# Altium footprint library BGA_Sq_100P.PcbLib: 114 footprints (part 31 of 31)
Each footprint in its own frame and in the unit in brackets; x right, y up, seen from the top. Pads: shape width x height; smd on the part's side, far side on the other; paste and mask are expansions set on the pad; w line width, h text height; cw(c..) or ccw(c..) is an arc to the next point about the centre after c.
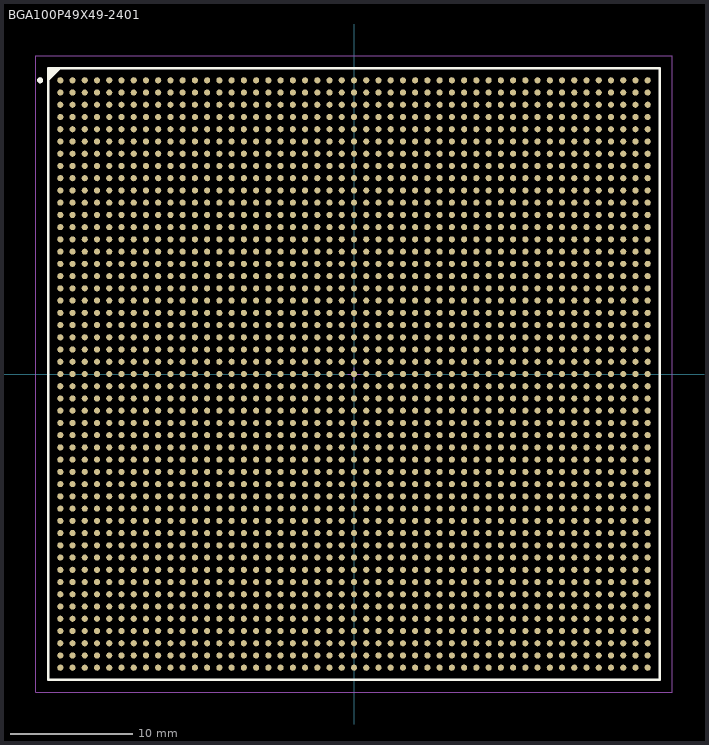
[diagram p30: the footprint, top view; thin cyan lines are the x and y axes]

## BGA100P49X49-2401 [mm] "BGA, 2401-Leads, Body 50x50mm, Pitch 1mm"
height 3.5
pads (2401):
  round 0.5 smd: A1(-24,24) A2(-23,24) A3(-22,24) A4(-21,24) A5(-20,24) A6(-19,24) A7(-18,24) A8(-17,24) A9(-16,24) A10(-15,24) A11(-14,24) A12(-13,24) A13(-12,24) A14(-11,24) A15(-10,24) A16(-9,24) A17(-8,24) A18(-7,24) A19(-6,24) A20(-5,24) A21(-4,24) A22(-3,24) A23(-2,24) A24(-1,24) A25(0,24) A26(1,24) A27(2,24) A28(3,24) A29(4,24) A30(5,24) A31(6,24) A32(7,24) A33(8,24) A34(9,24) A35(10,24) A36(11,24) A37(12,24) A38(13,24) A39(14,24) A40(15,24) A41(16,24) A42(17,24) A43(18,24) A44(19,24) A45(20,24) A46(21,24) A47(22,24) A48(23,24) A49(24,24) AA1(-24,4) AA2(-23,4) AA3(-22,4) AA4(-21,4) AA5(-20,4) AA6(-19,4) AA7(-18,4) AA8(-17,4) AA9(-16,4) AA10(-15,4) AA11(-14,4) AA12(-13,4) AA13(-12,4) AA14(-11,4) AA15(-10,4) AA16(-9,4) AA17(-8,4) AA18(-7,4) AA19(-6,4) AA20(-5,4) AA21(-4,4) AA22(-3,4) AA23(-2,4) AA24(-1,4) AA25(0,4) AA26(1,4) AA27(2,4) AA28(3,4) AA29(4,4) AA30(5,4) AA31(6,4) AA32(7,4) AA33(8,4) AA34(9,4) AA35(10,4) AA36(11,4) AA37(12,4) AA38(13,4) AA39(14,4) AA40(15,4) AA41(16,4) AA42(17,4) AA43(18,4) AA44(19,4) AA45(20,4) AA46(21,4) AA47(22,4) AA48(23,4) AA49(24,4) AB1(-24,3) AB2(-23,3) AB3(-22,3) AB4(-21,3) AB5(-20,3) AB6(-19,3) AB7(-18,3) AB8(-17,3) AB9(-16,3) AB10(-15,3) AB11(-14,3) AB12(-13,3) AB13(-12,3) AB14(-11,3) AB15(-10,3) AB16(-9,3) AB17(-8,3) AB18(-7,3) AB19(-6,3) AB20(-5,3) AB21(-4,3) AB22(-3,3) AB23(-2,3) AB24(-1,3) AB25(0,3) AB26(1,3) AB27(2,3) AB28(3,3) AB29(4,3) AB30(5,3) AB31(6,3) AB32(7,3) AB33(8,3) AB34(9,3) AB35(10,3) AB36(11,3) AB37(12,3) AB38(13,3) AB39(14,3) AB40(15,3) AB41(16,3) AB42(17,3) AB43(18,3) AB44(19,3) AB45(20,3) AB46(21,3) AB47(22,3) AB48(23,3) AB49(24,3) AC1(-24,2) AC2(-23,2) AC3(-22,2) AC4(-21,2) AC5(-20,2) AC6(-19,2) AC7(-18,2) AC8(-17,2) AC9(-16,2) AC10(-15,2) AC11(-14,2) AC12(-13,2) AC13(-12,2) AC14(-11,2) AC15(-10,2) AC16(-9,2) AC17(-8,2) AC18(-7,2) AC19(-6,2) AC20(-5,2) AC21(-4,2) AC22(-3,2) AC23(-2,2) AC24(-1,2) AC25(0,2) AC26(1,2) AC27(2,2) AC28(3,2) AC29(4,2) AC30(5,2) AC31(6,2) AC32(7,2) AC33(8,2) AC34(9,2) AC35(10,2) AC36(11,2) AC37(12,2) AC38(13,2) AC39(14,2) AC40(15,2) AC41(16,2) AC42(17,2) AC43(18,2) AC44(19,2) AC45(20,2) AC46(21,2) AC47(22,2) AC48(23,2) AC49(24,2) AD1(-24,1) AD2(-23,1) AD3(-22,1) AD4(-21,1) AD5(-20,1) AD6(-19,1) AD7(-18,1) AD8(-17,1) AD9(-16,1) AD10(-15,1) AD11(-14,1) AD12(-13,1) AD13(-12,1) AD14(-11,1) AD15(-10,1) AD16(-9,1) AD17(-8,1) AD18(-7,1) AD19(-6,1) AD20(-5,1) AD21(-4,1) AD22(-3,1) AD23(-2,1) AD24(-1,1) AD25(0,1) AD26(1,1) AD27(2,1) AD28(3,1) AD29(4,1) AD30(5,1) AD31(6,1) AD32(7,1) AD33(8,1) AD34(9,1) AD35(10,1) AD36(11,1) AD37(12,1) AD38(13,1) AD39(14,1) AD40(15,1) AD41(16,1) AD42(17,1) AD43(18,1) AD44(19,1) AD45(20,1) AD46(21,1) AD47(22,1) AD48(23,1) AD49(24,1) AE1(-24,0) AE2(-23,0) AE3(-22,0) AE4(-21,0) AE5(-20,0) AE6(-19,0) AE7(-18,0) AE8(-17,0) AE9(-16,0) AE10(-15,0) AE11(-14,0) AE12(-13,0) AE13(-12,0) AE14(-11,0) AE15(-10,0) AE16(-9,0) AE17(-8,0) AE18(-7,0) AE19(-6,0) AE20(-5,0) AE21(-4,0) AE22(-3,0) AE23(-2,0) AE24(-1,0) AE25(0,0) AE26(1,0) AE27(2,0) AE28(3,0) AE29(4,0) AE30(5,0) AE31(6,0) AE32(7,0) AE33(8,0) AE34(9,0) AE35(10,0) AE36(11,0) AE37(12,0) AE38(13,0) AE39(14,0) AE40(15,0) AE41(16,0) AE42(17,0) AE43(18,0) AE44(19,0) AE45(20,0) AE46(21,0) AE47(22,0) AE48(23,0) AE49(24,0) AF1(-24,-1) AF2(-23,-1) AF3(-22,-1) AF4(-21,-1) AF5(-20,-1) AF6(-19,-1) AF7(-18,-1) AF8(-17,-1) AF9(-16,-1) AF10(-15,-1) AF11(-14,-1) AF12(-13,-1) AF13(-12,-1) AF14(-11,-1) AF15(-10,-1) AF16(-9,-1) AF17(-8,-1) AF18(-7,-1) AF19(-6,-1) AF20(-5,-1) AF21(-4,-1) AF22(-3,-1) AF23(-2,-1) AF24(-1,-1) AF25(0,-1) AF26(1,-1) AF27(2,-1) AF28(3,-1) AF29(4,-1) AF30(5,-1) AF31(6,-1) AF32(7,-1) AF33(8,-1) AF34(9,-1) AF35(10,-1) AF36(11,-1) AF37(12,-1) AF38(13,-1) AF39(14,-1) AF40(15,-1) AF41(16,-1) AF42(17,-1) AF43(18,-1) AF44(19,-1) AF45(20,-1) AF46(21,-1) AF47(22,-1) AF48(23,-1) AF49(24,-1) AG1(-24,-2) AG2(-23,-2) AG3(-22,-2) AG4(-21,-2) AG5(-20,-2) AG6(-19,-2) AG7(-18,-2) AG8(-17,-2) AG9(-16,-2) AG10(-15,-2) AG11(-14,-2) AG12(-13,-2) AG13(-12,-2) AG14(-11,-2) AG15(-10,-2) AG16(-9,-2) AG17(-8,-2) AG18(-7,-2) AG19(-6,-2) AG20(-5,-2) AG21(-4,-2) AG22(-3,-2) AG23(-2,-2) AG24(-1,-2) AG25(0,-2) AG26(1,-2) AG27(2,-2) AG28(3,-2) AG29(4,-2) AG30(5,-2) AG31(6,-2) AG32(7,-2) AG33(8,-2) AG34(9,-2) AG35(10,-2) AG36(11,-2) AG37(12,-2) AG38(13,-2) AG39(14,-2) AG40(15,-2) AG41(16,-2) AG42(17,-2) AG43(18,-2) AG44(19,-2) AG45(20,-2) AG46(21,-2) AG47(22,-2) AG48(23,-2) AG49(24,-2) AH1(-24,-3) AH2(-23,-3) AH3(-22,-3) AH4(-21,-3) AH5(-20,-3) AH6(-19,-3) AH7(-18,-3) AH8(-17,-3) AH9(-16,-3) AH10(-15,-3) AH11(-14,-3) AH12(-13,-3) AH13(-12,-3) AH14(-11,-3) AH15(-10,-3) AH16(-9,-3) AH17(-8,-3) AH18(-7,-3) AH19(-6,-3) AH20(-5,-3) AH21(-4,-3) AH22(-3,-3) AH23(-2,-3) AH24(-1,-3) AH25(0,-3) AH26(1,-3) AH27(2,-3) AH28(3,-3) AH29(4,-3) AH30(5,-3) AH31(6,-3) AH32(7,-3) AH33(8,-3) AH34(9,-3) AH35(10,-3) AH36(11,-3) AH37(12,-3) AH38(13,-3) AH39(14,-3) AH40(15,-3) AH41(16,-3) AH42(17,-3) AH43(18,-3) AH44(19,-3) AH45(20,-3) AH46(21,-3) AH47(22,-3) AH48(23,-3) AH49(24,-3) AJ1(-24,-4) AJ2(-23,-4) AJ3(-22,-4) AJ4(-21,-4) AJ5(-20,-4) AJ6(-19,-4) AJ7(-18,-4) AJ8(-17,-4) AJ9(-16,-4) AJ10(-15,-4) AJ11(-14,-4) AJ12(-13,-4) AJ13(-12,-4) AJ14(-11,-4) AJ15(-10,-4) AJ16(-9,-4) AJ17(-8,-4) AJ18(-7,-4) AJ19(-6,-4) AJ20(-5,-4) AJ21(-4,-4) AJ22(-3,-4) AJ23(-2,-4) AJ24(-1,-4) AJ25(0,-4) AJ26(1,-4) AJ27(2,-4) AJ28(3,-4) AJ29(4,-4) AJ30(5,-4) AJ31(6,-4) AJ32(7,-4) AJ33(8,-4) AJ34(9,-4) AJ35(10,-4) AJ36(11,-4) AJ37(12,-4) AJ38(13,-4) AJ39(14,-4) AJ40(15,-4) AJ41(16,-4) AJ42(17,-4) AJ43(18,-4) AJ44(19,-4) AJ45(20,-4) AJ46(21,-4) AJ47(22,-4) AJ48(23,-4) AJ49(24,-4) AK1(-24,-5) AK2(-23,-5) AK3(-22,-5) AK4(-21,-5) AK5(-20,-5) AK6(-19,-5) AK7(-18,-5) AK8(-17,-5) AK9(-16,-5) AK10(-15,-5) AK11(-14,-5) AK12(-13,-5) AK13(-12,-5) AK14(-11,-5) AK15(-10,-5) AK16(-9,-5) AK17(-8,-5) AK18(-7,-5) AK19(-6,-5) AK20(-5,-5) AK21(-4,-5) AK22(-3,-5) AK23(-2,-5) AK24(-1,-5) AK25(0,-5) AK26(1,-5) AK27(2,-5) AK28(3,-5) AK29(4,-5) AK30(5,-5) AK31(6,-5) AK32(7,-5) AK33(8,-5) AK34(9,-5) AK35(10,-5) AK36(11,-5) AK37(12,-5) AK38(13,-5) AK39(14,-5) AK40(15,-5) AK41(16,-5) AK42(17,-5) AK43(18,-5) AK44(19,-5) AK45(20,-5) AK46(21,-5) AK47(22,-5) AK48(23,-5) AK49(24,-5) AL1(-24,-6) AL2(-23,-6) AL3(-22,-6) AL4(-21,-6) AL5(-20,-6) AL6(-19,-6) AL7(-18,-6) AL8(-17,-6) AL9(-16,-6) AL10(-15,-6) AL11(-14,-6) AL12(-13,-6) AL13(-12,-6) AL14(-11,-6) AL15(-10,-6) AL16(-9,-6) AL17(-8,-6) AL18(-7,-6) AL19(-6,-6) AL20(-5,-6) AL21(-4,-6) AL22(-3,-6) AL23(-2,-6) AL24(-1,-6) AL25(0,-6) AL26(1,-6) AL27(2,-6) AL28(3,-6) AL29(4,-6) AL30(5,-6) AL31(6,-6) AL32(7,-6) AL33(8,-6) AL34(9,-6) AL35(10,-6) AL36(11,-6) AL37(12,-6) AL38(13,-6) AL39(14,-6) AL40(15,-6) AL41(16,-6) AL42(17,-6) AL43(18,-6) AL44(19,-6) AL45(20,-6) AL46(21,-6) AL47(22,-6) AL48(23,-6) AL49(24,-6) AM1(-24,-7) AM2(-23,-7) AM3(-22,-7) AM4(-21,-7) AM5(-20,-7) AM6(-19,-7) AM7(-18,-7) AM8(-17,-7) AM9(-16,-7) AM10(-15,-7) AM11(-14,-7) AM12(-13,-7) AM13(-12,-7) AM14(-11,-7) AM15(-10,-7) AM16(-9,-7) AM17(-8,-7) AM18(-7,-7) AM19(-6,-7) AM20(-5,-7) AM21(-4,-7) AM22(-3,-7) AM23(-2,-7) AM24(-1,-7) AM25(0,-7) AM26(1,-7) AM27(2,-7) AM28(3,-7) AM29(4,-7) AM30(5,-7) AM31(6,-7) AM32(7,-7) AM33(8,-7) AM34(9,-7) AM35(10,-7) AM36(11,-7) AM37(12,-7) AM38(13,-7) AM39(14,-7) AM40(15,-7) AM41(16,-7) AM42(17,-7) AM43(18,-7) AM44(19,-7) AM45(20,-7) AM46(21,-7) AM47(22,-7) AM48(23,-7) AM49(24,-7) AN1(-24,-8) AN2(-23,-8) AN3(-22,-8) AN4(-21,-8) AN5(-20,-8) AN6(-19,-8) AN7(-18,-8) AN8(-17,-8) AN9(-16,-8) AN10(-15,-8) AN11(-14,-8) AN12(-13,-8) AN13(-12,-8) AN14(-11,-8) AN15(-10,-8) AN16(-9,-8) AN17(-8,-8) AN18(-7,-8) AN19(-6,-8) AN20(-5,-8) AN21(-4,-8) AN22(-3,-8) AN23(-2,-8) AN24(-1,-8) AN25(0,-8) AN26(1,-8) AN27(2,-8) AN28(3,-8) AN29(4,-8) AN30(5,-8) AN31(6,-8) AN32(7,-8) AN33(8,-8) AN34(9,-8) AN35(10,-8) AN36(11,-8) AN37(12,-8) AN38(13,-8) AN39(14,-8) AN40(15,-8) AN41(16,-8) AN42(17,-8) AN43(18,-8) AN44(19,-8) AN45(20,-8) AN46(21,-8) AN47(22,-8) AN48(23,-8) AN49(24,-8) AP1(-24,-9) AP2(-23,-9) AP3(-22,-9) AP4(-21,-9) AP5(-20,-9) AP6(-19,-9) AP7(-18,-9) AP8(-17,-9) AP9(-16,-9) AP10(-15,-9) AP11(-14,-9) AP12(-13,-9) AP13(-12,-9) AP14(-11,-9) AP15(-10,-9) AP16(-9,-9) AP17(-8,-9) AP18(-7,-9) AP19(-6,-9) AP20(-5,-9) AP21(-4,-9) AP22(-3,-9) AP23(-2,-9) AP24(-1,-9) AP25(0,-9) AP26(1,-9) AP27(2,-9) AP28(3,-9) AP29(4,-9) AP30(5,-9) AP31(6,-9) AP32(7,-9) AP33(8,-9) AP34(9,-9) AP35(10,-9) AP36(11,-9) AP37(12,-9) AP38(13,-9) AP39(14,-9) AP40(15,-9) AP41(16,-9) AP42(17,-9) AP43(18,-9) AP44(19,-9) AP45(20,-9) AP46(21,-9) AP47(22,-9) AP48(23,-9) AP49(24,-9) AR1(-24,-10) AR2(-23,-10) AR3(-22,-10) AR4(-21,-10) AR5(-20,-10) AR6(-19,-10) AR7(-18,-10) AR8(-17,-10) AR9(-16,-10) AR10(-15,-10) AR11(-14,-10) AR12(-13,-10) AR13(-12,-10) AR14(-11,-10) AR15(-10,-10) AR16(-9,-10) AR17(-8,-10) AR18(-7,-10) AR19(-6,-10) AR20(-5,-10) AR21(-4,-10) AR22(-3,-10) AR23(-2,-10) AR24(-1,-10) AR25(0,-10) AR26(1,-10) AR27(2,-10) AR28(3,-10) AR29(4,-10) AR30(5,-10) AR31(6,-10) AR32(7,-10) AR33(8,-10) AR34(9,-10) AR35(10,-10) AR36(11,-10) AR37(12,-10) AR38(13,-10) AR39(14,-10) AR40(15,-10) AR41(16,-10) AR42(17,-10) AR43(18,-10) AR44(19,-10) AR45(20,-10) AR46(21,-10) AR47(22,-10) AR48(23,-10) AR49(24,-10) AT1(-24,-11) AT2(-23,-11) AT3(-22,-11) AT4(-21,-11) AT5(-20,-11) AT6(-19,-11) AT7(-18,-11) AT8(-17,-11) AT9(-16,-11) AT10(-15,-11) AT11(-14,-11) AT12(-13,-11) AT13(-12,-11) AT14(-11,-11) AT15(-10,-11) AT16(-9,-11) AT17(-8,-11) AT18(-7,-11) AT19(-6,-11) AT20(-5,-11) AT21(-4,-11) AT22(-3,-11) AT23(-2,-11) AT24(-1,-11) AT25(0,-11) AT26(1,-11) AT27(2,-11) AT28(3,-11) AT29(4,-11) AT30(5,-11) AT31(6,-11) AT32(7,-11) AT33(8,-11) AT34(9,-11) AT35(10,-11) AT36(11,-11) AT37(12,-11) AT38(13,-11) AT39(14,-11) AT40(15,-11) AT41(16,-11) AT42(17,-11) AT43(18,-11) AT44(19,-11) AT45(20,-11) AT46(21,-11) AT47(22,-11) AT48(23,-11) AT49(24,-11) AU1(-24,-12) AU2(-23,-12) AU3(-22,-12) AU4(-21,-12) AU5(-20,-12) AU6(-19,-12) AU7(-18,-12) AU8(-17,-12) AU9(-16,-12) AU10(-15,-12) AU11(-14,-12) AU12(-13,-12) AU13(-12,-12) AU14(-11,-12) AU15(-10,-12) AU16(-9,-12) AU17(-8,-12) AU18(-7,-12) AU19(-6,-12) AU20(-5,-12) AU21(-4,-12) AU22(-3,-12) AU23(-2,-12) AU24(-1,-12) AU25(0,-12) AU26(1,-12) AU27(2,-12) AU28(3,-12) AU29(4,-12) AU30(5,-12) AU31(6,-12) AU32(7,-12) AU33(8,-12) AU34(9,-12) AU35(10,-12) AU36(11,-12) AU37(12,-12) AU38(13,-12) AU39(14,-12) AU40(15,-12) AU41(16,-12) AU42(17,-12) AU43(18,-12) AU44(19,-12) AU45(20,-12) AU46(21,-12) AU47(22,-12) AU48(23,-12) AU49(24,-12) AV1(-24,-13) AV2(-23,-13) AV3(-22,-13) AV4(-21,-13) AV5(-20,-13) AV6(-19,-13) AV7(-18,-13) AV8(-17,-13) AV9(-16,-13) AV10(-15,-13) AV11(-14,-13) AV12(-13,-13) AV13(-12,-13) AV14(-11,-13) AV15(-10,-13) AV16(-9,-13) AV17(-8,-13) AV18(-7,-13) AV19(-6,-13) AV20(-5,-13) AV21(-4,-13) AV22(-3,-13) AV23(-2,-13) AV24(-1,-13) AV25(0,-13) AV26(1,-13) AV27(2,-13) AV28(3,-13) AV29(4,-13) AV30(5,-13) AV31(6,-13) AV32(7,-13) AV33(8,-13) AV34(9,-13) AV35(10,-13) AV36(11,-13) AV37(12,-13) AV38(13,-13) AV39(14,-13) AV40(15,-13) AV41(16,-13) AV42(17,-13) AV43(18,-13) AV44(19,-13) AV45(20,-13) AV46(21,-13) AV47(22,-13) AV48(23,-13) AV49(24,-13) AW1(-24,-14) AW2(-23,-14) AW3(-22,-14) AW4(-21,-14) AW5(-20,-14) AW6(-19,-14) AW7(-18,-14) AW8(-17,-14) AW9(-16,-14) AW10(-15,-14) AW11(-14,-14) AW12(-13,-14) AW13(-12,-14) AW14(-11,-14) AW15(-10,-14) AW16(-9,-14) AW17(-8,-14) AW18(-7,-14) AW19(-6,-14) AW20(-5,-14) AW21(-4,-14) AW22(-3,-14) AW23(-2,-14) AW24(-1,-14) AW25(0,-14) AW26(1,-14) AW27(2,-14) AW28(3,-14) AW29(4,-14) AW30(5,-14) AW31(6,-14) AW32(7,-14) AW33(8,-14) AW34(9,-14) AW35(10,-14) AW36(11,-14) AW37(12,-14) AW38(13,-14) AW39(14,-14) AW40(15,-14) AW41(16,-14) AW42(17,-14) AW43(18,-14) AW44(19,-14) AW45(20,-14) AW46(21,-14) AW47(22,-14) AW48(23,-14) AW49(24,-14) AY1(-24,-15) AY2(-23,-15) AY3(-22,-15) AY4(-21,-15) AY5(-20,-15) AY6(-19,-15) AY7(-18,-15) AY8(-17,-15) AY9(-16,-15) AY10(-15,-15) AY11(-14,-15) AY12(-13,-15) AY13(-12,-15) AY14(-11,-15) AY15(-10,-15) AY16(-9,-15) AY17(-8,-15) AY18(-7,-15) AY19(-6,-15) AY20(-5,-15) AY21(-4,-15) AY22(-3,-15) AY23(-2,-15) AY24(-1,-15) AY25(0,-15) AY26(1,-15) AY27(2,-15) AY28(3,-15) AY29(4,-15) AY30(5,-15) AY31(6,-15) AY32(7,-15) AY33(8,-15) AY34(9,-15) AY35(10,-15) AY36(11,-15) AY37(12,-15) AY38(13,-15) AY39(14,-15) AY40(15,-15) AY41(16,-15) AY42(17,-15) AY43(18,-15) AY44(19,-15) AY45(20,-15) AY46(21,-15) AY47(22,-15) AY48(23,-15) AY49(24,-15) B1(-24,23) B2(-23,23) B3(-22,23) B4(-21,23) B5(-20,23) B6(-19,23) B7(-18,23) B8(-17,23) B9(-16,23) B10(-15,23) B11(-14,23) B12(-13,23) B13(-12,23) B14(-11,23) B15(-10,23) B16(-9,23) B17(-8,23) B18(-7,23) B19(-6,23) B20(-5,23) B21(-4,23) B22(-3,23) B23(-2,23) B24(-1,23) B25(0,23) B26(1,23) B27(2,23) B28(3,23) B29(4,23) B30(5,23) B31(6,23) B32(7,23) B33(8,23) B34(9,23) B35(10,23) B36(11,23) B37(12,23) B38(13,23) B39(14,23) B40(15,23) B41(16,23) B42(17,23) B43(18,23) B44(19,23) B45(20,23) B46(21,23) B47(22,23) B48(23,23) B49(24,23) BA1(-24,-16) BA2(-23,-16) BA3(-22,-16) BA4(-21,-16) BA5(-20,-16) BA6(-19,-16) BA7(-18,-16) BA8(-17,-16) BA9(-16,-16) BA10(-15,-16) BA11(-14,-16) BA12(-13,-16) BA13(-12,-16) BA14(-11,-16) BA15(-10,-16) BA16(-9,-16) BA17(-8,-16) BA18(-7,-16) BA19(-6,-16) BA20(-5,-16) BA21(-4,-16) BA22(-3,-16) BA23(-2,-16) BA24(-1,-16) BA25(0,-16) BA26(1,-16) BA27(2,-16) BA28(3,-16) BA29(4,-16) BA30(5,-16) BA31(6,-16) BA32(7,-16) BA33(8,-16) BA34(9,-16) BA35(10,-16) BA36(11,-16) BA37(12,-16) BA38(13,-16) BA39(14,-16) BA40(15,-16) BA41(16,-16) BA42(17,-16) BA43(18,-16) BA44(19,-16) BA45(20,-16) BA46(21,-16) BA47(22,-16) BA48(23,-16) BA49(24,-16) BB1(-24,-17) BB2(-23,-17) BB3(-22,-17) BB4(-21,-17) BB5(-20,-17) BB6(-19,-17) BB7(-18,-17) BB8(-17,-17) BB9(-16,-17) BB10(-15,-17) BB11(-14,-17) BB12(-13,-17) BB13(-12,-17) BB14(-11,-17) BB15(-10,-17) BB16(-9,-17) BB17(-8,-17) BB18(-7,-17) BB19(-6,-17) BB20(-5,-17) BB21(-4,-17) BB22(-3,-17) BB23(-2,-17) BB24(-1,-17) BB25(0,-17) BB26(1,-17) BB27(2,-17) BB28(3,-17) BB29(4,-17) BB30(5,-17) BB31(6,-17) BB32(7,-17) BB33(8,-17) BB34(9,-17) BB35(10,-17) BB36(11,-17) BB37(12,-17) BB38(13,-17) BB39(14,-17) BB40(15,-17) BB41(16,-17) BB42(17,-17) BB43(18,-17) BB44(19,-17) BB45(20,-17) BB46(21,-17) BB47(22,-17) BB48(23,-17) BB49(24,-17) BC1(-24,-18) BC2(-23,-18) BC3(-22,-18) BC4(-21,-18) BC5(-20,-18) BC6(-19,-18) BC7(-18,-18) BC8(-17,-18) BC9(-16,-18) BC10(-15,-18) BC11(-14,-18) BC12(-13,-18) BC13(-12,-18) BC14(-11,-18) BC15(-10,-18) BC16(-9,-18) BC17(-8,-18) BC18(-7,-18) BC19(-6,-18) BC20(-5,-18) BC21(-4,-18) BC22(-3,-18) BC23(-2,-18) BC24(-1,-18) BC25(0,-18) BC26(1,-18) BC27(2,-18) BC28(3,-18) BC29(4,-18) BC30(5,-18) BC31(6,-18) BC32(7,-18) BC33(8,-18) BC34(9,-18) BC35(10,-18) BC36(11,-18) BC37(12,-18) BC38(13,-18) BC39(14,-18) BC40(15,-18) BC41(16,-18) BC42(17,-18) BC43(18,-18) BC44(19,-18) BC45(20,-18) BC46(21,-18) BC47(22,-18) BC48(23,-18) BC49(24,-18) BD1(-24,-19) BD2(-23,-19) BD3(-22,-19) BD4(-21,-19) BD5(-20,-19) BD6(-19,-19) BD7(-18,-19) BD8(-17,-19) BD9(-16,-19) BD10(-15,-19) BD11(-14,-19) BD12(-13,-19) BD13(-12,-19) BD14(-11,-19) BD15(-10,-19) BD16(-9,-19) BD17(-8,-19) BD18(-7,-19) BD19(-6,-19) BD20(-5,-19) BD21(-4,-19) BD22(-3,-19) BD23(-2,-19) BD24(-1,-19) BD25(0,-19) BD26(1,-19) BD27(2,-19) BD28(3,-19) BD29(4,-19) BD30(5,-19) BD31(6,-19) BD32(7,-19) BD33(8,-19) BD34(9,-19) BD35(10,-19) BD36(11,-19) BD37(12,-19) BD38(13,-19) BD39(14,-19) BD40(15,-19) BD41(16,-19) BD42(17,-19) BD43(18,-19) BD44(19,-19) BD45(20,-19) BD46(21,-19) BD47(22,-19) BD48(23,-19) BD49(24,-19) BE1(-24,-20) BE2(-23,-20) BE3(-22,-20) BE4(-21,-20) BE5(-20,-20) BE6(-19,-20) BE7(-18,-20) BE8(-17,-20) BE9(-16,-20) BE10(-15,-20) BE11(-14,-20) BE12(-13,-20) BE13(-12,-20) BE14(-11,-20) BE15(-10,-20) BE16(-9,-20) BE17(-8,-20) BE18(-7,-20) BE19(-6,-20) BE20(-5,-20) BE21(-4,-20) BE22(-3,-20) BE23(-2,-20) BE24(-1,-20) BE25(0,-20) BE26(1,-20) BE27(2,-20) BE28(3,-20) BE29(4,-20) BE30(5,-20) BE31(6,-20) BE32(7,-20) BE33(8,-20) BE34(9,-20) BE35(10,-20) BE36(11,-20) BE37(12,-20) BE38(13,-20) BE39(14,-20) BE40(15,-20) BE41(16,-20) BE42(17,-20) BE43(18,-20) BE44(19,-20) BE45(20,-20) BE46(21,-20) BE47(22,-20) BE48(23,-20) BE49(24,-20) BF1(-24,-21) BF2(-23,-21) BF3(-22,-21) BF4(-21,-21) BF5(-20,-21) BF6(-19,-21) BF7(-18,-21) BF8(-17,-21) BF9(-16,-21) BF10(-15,-21) BF11(-14,-21) BF12(-13,-21) BF13(-12,-21) BF14(-11,-21) BF15(-10,-21) BF16(-9,-21) BF17(-8,-21) BF18(-7,-21) BF19(-6,-21) BF20(-5,-21) BF21(-4,-21) BF22(-3,-21) BF23(-2,-21) BF24(-1,-21) BF25(0,-21) BF26(1,-21) BF27(2,-21) BF28(3,-21) BF29(4,-21) BF30(5,-21) BF31(6,-21) BF32(7,-21) BF33(8,-21) BF34(9,-21) BF35(10,-21) BF36(11,-21) BF37(12,-21) BF38(13,-21) BF39(14,-21) BF40(15,-21) BF41(16,-21) BF42(17,-21) BF43(18,-21) BF44(19,-21) BF45(20,-21) BF46(21,-21) BF47(22,-21) BF48(23,-21) BF49(24,-21) BG1(-24,-22) BG2(-23,-22) BG3(-22,-22) BG4(-21,-22) BG5(-20,-22) BG6(-19,-22) BG7(-18,-22) BG8(-17,-22) BG9(-16,-22) BG10(-15,-22) BG11(-14,-22) BG12(-13,-22) BG13(-12,-22) BG14(-11,-22) BG15(-10,-22) BG16(-9,-22) BG17(-8,-22) BG18(-7,-22) BG19(-6,-22) BG20(-5,-22) BG21(-4,-22) BG22(-3,-22) BG23(-2,-22) BG24(-1,-22) BG25(0,-22) BG26(1,-22) BG27(2,-22) BG28(3,-22) BG29(4,-22) BG30(5,-22) BG31(6,-22) BG32(7,-22) BG33(8,-22) BG34(9,-22) BG35(10,-22) BG36(11,-22) BG37(12,-22) BG38(13,-22) BG39(14,-22) BG40(15,-22) BG41(16,-22) BG42(17,-22) BG43(18,-22) BG44(19,-22) BG45(20,-22) BG46(21,-22) BG47(22,-22) BG48(23,-22) BG49(24,-22) BH1(-24,-23) BH2(-23,-23) BH3(-22,-23) BH4(-21,-23) BH5(-20,-23) BH6(-19,-23) BH7(-18,-23) BH8(-17,-23) BH9(-16,-23) BH10(-15,-23) BH11(-14,-23) BH12(-13,-23) BH13(-12,-23) BH14(-11,-23) BH15(-10,-23) BH16(-9,-23) BH17(-8,-23) BH18(-7,-23) BH19(-6,-23) BH20(-5,-23) BH21(-4,-23) BH22(-3,-23) BH23(-2,-23) BH24(-1,-23) BH25(0,-23) BH26(1,-23) BH27(2,-23) BH28(3,-23) BH29(4,-23) BH30(5,-23) BH31(6,-23) BH32(7,-23) BH33(8,-23) BH34(9,-23) BH35(10,-23) BH36(11,-23) BH37(12,-23) BH38(13,-23) BH39(14,-23) BH40(15,-23) BH41(16,-23) BH42(17,-23) BH43(18,-23) BH44(19,-23) BH45(20,-23) BH46(21,-23) BH47(22,-23) BH48(23,-23) BH49(24,-23) BJ1(-24,-24) BJ2(-23,-24) BJ3(-22,-24) BJ4(-21,-24) BJ5(-20,-24) BJ6(-19,-24) BJ7(-18,-24) BJ8(-17,-24) BJ9(-16,-24) BJ10(-15,-24) BJ11(-14,-24) BJ12(-13,-24) BJ13(-12,-24) BJ14(-11,-24) BJ15(-10,-24) BJ16(-9,-24) BJ17(-8,-24) BJ18(-7,-24) BJ19(-6,-24) BJ20(-5,-24) BJ21(-4,-24) BJ22(-3,-24) BJ23(-2,-24) BJ24(-1,-24) BJ25(0,-24) BJ26(1,-24) BJ27(2,-24) BJ28(3,-24) BJ29(4,-24) BJ30(5,-24) BJ31(6,-24) BJ32(7,-24) BJ33(8,-24) BJ34(9,-24) BJ35(10,-24) BJ36(11,-24) BJ37(12,-24) BJ38(13,-24) BJ39(14,-24) BJ40(15,-24) BJ41(16,-24) BJ42(17,-24) BJ43(18,-24) BJ44(19,-24) BJ45(20,-24) BJ46(21,-24) BJ47(22,-24) BJ48(23,-24) BJ49(24,-24) C1(-24,22) C2(-23,22) C3(-22,22) C4(-21,22) C5(-20,22) C6(-19,22) C7(-18,22) C8(-17,22) C9(-16,22) C10(-15,22) C11(-14,22) C12(-13,22) C13(-12,22) C14(-11,22) C15(-10,22) C16(-9,22) C17(-8,22) C18(-7,22) C19(-6,22) C20(-5,22) C21(-4,22) C22(-3,22) C23(-2,22) C24(-1,22) C25(0,22) C26(1,22) C27(2,22) C28(3,22) C29(4,22) C30(5,22) C31(6,22) C32(7,22) C33(8,22) C34(9,22) C35(10,22) C36(11,22) C37(12,22) C38(13,22) C39(14,22) C40(15,22) C41(16,22) C42(17,22) C43(18,22) C44(19,22) C45(20,22) C46(21,22) C47(22,22) C48(23,22) C49(24,22) D1(-24,21) D2(-23,21) D3(-22,21) D4(-21,21) D5(-20,21) D6(-19,21) D7(-18,21) D8(-17,21) D9(-16,21) D10(-15,21) D11(-14,21) D12(-13,21) D13(-12,21) D14(-11,21) D15(-10,21) D16(-9,21) D17(-8,21) D18(-7,21) D19(-6,21) D20(-5,21) D21(-4,21) D22(-3,21) D23(-2,21) D24(-1,21) D25(0,21) D26(1,21) D27(2,21) D28(3,21) D29(4,21) D30(5,21) D31(6,21) D32(7,21) D33(8,21) D34(9,21) D35(10,21) D36(11,21) D37(12,21) D38(13,21) D39(14,21) D40(15,21) D41(16,21) D42(17,21) D43(18,21) D44(19,21) D45(20,21) D46(21,21) D47(22,21) D48(23,21) D49(24,21) E1(-24,20) E2(-23,20) E3(-22,20) E4(-21,20) E5(-20,20) E6(-19,20) E7(-18,20) E8(-17,20) E9(-16,20) E10(-15,20) E11(-14,20) E12(-13,20) E13(-12,20) E14(-11,20) E15(-10,20) E16(-9,20) E17(-8,20) E18(-7,20) E19(-6,20) E20(-5,20) E21(-4,20) E22(-3,20) E23(-2,20) E24(-1,20) E25(0,20) E26(1,20) E27(2,20) E28(3,20) E29(4,20) E30(5,20) E31(6,20) E32(7,20) E33(8,20) E34(9,20) E35(10,20) E36(11,20) E37(12,20) E38(13,20) E39(14,20) E40(15,20) E41(16,20) E42(17,20) E43(18,20) E44(19,20) E45(20,20) E46(21,20) E47(22,20) E48(23,20) E49(24,20) F1(-24,19) F2(-23,19) F3(-22,19) F4(-21,19) F5(-20,19) F6(-19,19) F7(-18,19) F8(-17,19) F9(-16,19) F10(-15,19) F11(-14,19) F12(-13,19) F13(-12,19) F14(-11,19) F15(-10,19) F16(-9,19) F17(-8,19) F18(-7,19) F19(-6,19) F20(-5,19) F21(-4,19) F22(-3,19) F23(-2,19) F24(-1,19) F25(0,19) F26(1,19) F27(2,19) F28(3,19) F29(4,19) F30(5,19) F31(6,19) F32(7,19) F33(8,19) F34(9,19) F35(10,19) F36(11,19) F37(12,19) F38(13,19) F39(14,19) F40(15,19) F41(16,19) F42(17,19) F43(18,19) F44(19,19) F45(20,19) F46(21,19) F47(22,19) F48(23,19) F49(24,19) G1(-24,18) G2(-23,18) G3(-22,18) G4(-21,18) G5(-20,18) G6(-19,18) G7(-18,18) G8(-17,18) G9(-16,18) G10(-15,18) G11(-14,18) G12(-13,18) G13(-12,18) G14(-11,18) G15(-10,18) G16(-9,18) G17(-8,18) G18(-7,18) G19(-6,18) G20(-5,18) G21(-4,18) G22(-3,18) G23(-2,18) G24(-1,18) G25(0,18) G26(1,18) G27(2,18) G28(3,18) G29(4,18) G30(5,18) G31(6,18) G32(7,18) G33(8,18) G34(9,18) G35(10,18) G36(11,18) G37(12,18) G38(13,18) G39(14,18) G40(15,18) G41(16,18) G42(17,18) G43(18,18) G44(19,18) G45(20,18) G46(21,18) G47(22,18) G48(23,18) G49(24,18) H1(-24,17) H2(-23,17) H3(-22,17) H4(-21,17) H5(-20,17) H6(-19,17) H7(-18,17) H8(-17,17) H9(-16,17) H10(-15,17) H11(-14,17) H12(-13,17) H13(-12,17) H14(-11,17) H15(-10,17) H16(-9,17) H17(-8,17) H18(-7,17) H19(-6,17) H20(-5,17) H21(-4,17) H22(-3,17) H23(-2,17) H24(-1,17) H25(0,17) H26(1,17) H27(2,17) H28(3,17) H29(4,17) H30(5,17) H31(6,17) H32(7,17) H33(8,17) H34(9,17) H35(10,17) H36(11,17) H37(12,17) H38(13,17) H39(14,17) H40(15,17) H41(16,17) H42(17,17) H43(18,17) H44(19,17) H45(20,17) H46(21,17) H47(22,17) H48(23,17) H49(24,17) J1(-24,16) J2(-23,16) J3(-22,16) J4(-21,16) J5(-20,16) J6(-19,16) J7(-18,16) J8(-17,16) J9(-16,16) J10(-15,16) J11(-14,16) J12(-13,16) J13(-12,16) J14(-11,16) J15(-10,16) J16(-9,16) J17(-8,16) J18(-7,16) J19(-6,16) J20(-5,16) J21(-4,16) J22(-3,16) J23(-2,16) J24(-1,16) J25(0,16) J26(1,16) J27(2,16) J28(3,16) J29(4,16) J30(5,16) J31(6,16) J32(7,16) J33(8,16) J34(9,16) J35(10,16) J36(11,16) J37(12,16) J38(13,16) J39(14,16) J40(15,16) J41(16,16) J42(17,16) J43(18,16) J44(19,16) J45(20,16) J46(21,16) J47(22,16) J48(23,16) J49(24,16) K1(-24,15) K2(-23,15) K3(-22,15) K4(-21,15) K5(-20,15) K6(-19,15) K7(-18,15) K8(-17,15) K9(-16,15) K10(-15,15) K11(-14,15) K12(-13,15) K13(-12,15) K14(-11,15) K15(-10,15) K16(-9,15) K17(-8,15) K18(-7,15) K19(-6,15) K20(-5,15) K21(-4,15) K22(-3,15) K23(-2,15) K24(-1,15) K25(0,15) K26(1,15) K27(2,15) K28(3,15) K29(4,15) K30(5,15) K31(6,15) K32(7,15) K33(8,15) K34(9,15) K35(10,15) K36(11,15) K37(12,15) K38(13,15) K39(14,15) K40(15,15) K41(16,15) K42(17,15) K43(18,15) K44(19,15) K45(20,15) K46(21,15) K47(22,15) K48(23,15) K49(24,15) L1(-24,14) L2(-23,14) L3(-22,14) L4(-21,14) L5(-20,14) L6(-19,14) L7(-18,14) L8(-17,14) L9(-16,14) L10(-15,14) L11(-14,14) L12(-13,14) L13(-12,14) L14(-11,14) L15(-10,14) L16(-9,14) L17(-8,14) L18(-7,14) L19(-6,14) L20(-5,14) L21(-4,14) L22(-3,14) L23(-2,14) L24(-1,14) L25(0,14) L26(1,14) L27(2,14) L28(3,14) L29(4,14) L30(5,14) L31(6,14) L32(7,14) L33(8,14) L34(9,14) L35(10,14) L36(11,14) L37(12,14) L38(13,14) L39(14,14) L40(15,14) L41(16,14) L42(17,14) L43(18,14) L44(19,14) L45(20,14) L46(21,14) L47(22,14) L48(23,14) L49(24,14) M1(-24,13) M2(-23,13) M3(-22,13) M4(-21,13) M5(-20,13) M6(-19,13) M7(-18,13) M8(-17,13) M9(-16,13) M10(-15,13) M11(-14,13) M12(-13,13) M13(-12,13) M14(-11,13) M15(-10,13) M16(-9,13) M17(-8,13) M18(-7,13) M19(-6,13) M20(-5,13) M21(-4,13) M22(-3,13) M23(-2,13) M24(-1,13) M25(0,13) M26(1,13) M27(2,13) M28(3,13) M29(4,13) M30(5,13) M31(6,13) M32(7,13) M33(8,13) M34(9,13) M35(10,13) M36(11,13) M37(12,13) M38(13,13) M39(14,13) M40(15,13) M41(16,13) M42(17,13) M43(18,13) M44(19,13) M45(20,13) M46(21,13) M47(22,13) M48(23,13) M49(24,13) N1(-24,12) N2(-23,12) N3(-22,12) N4(-21,12) N5(-20,12) N6(-19,12) N7(-18,12) N8(-17,12) N9(-16,12) N10(-15,12) N11(-14,12) N12(-13,12) N13(-12,12) N14(-11,12) N15(-10,12) N16(-9,12) N17(-8,12) N18(-7,12) N19(-6,12) N20(-5,12) N21(-4,12) N22(-3,12) N23(-2,12) N24(-1,12) N25(0,12) N26(1,12) N27(2,12) N28(3,12) N29(4,12) N30(5,12) N31(6,12) N32(7,12) N33(8,12) N34(9,12) N35(10,12) N36(11,12) N37(12,12) N38(13,12) N39(14,12) N40(15,12) N41(16,12) N42(17,12) N43(18,12) N44(19,12) N45(20,12) N46(21,12) N47(22,12) N48(23,12) N49(24,12) P1(-24,11) P2(-23,11) P3(-22,11) P4(-21,11) P5(-20,11) P6(-19,11) P7(-18,11) P8(-17,11) P9(-16,11) P10(-15,11) P11(-14,11) P12(-13,11) P13(-12,11) P14(-11,11) P15(-10,11) P16(-9,11) P17(-8,11) P18(-7,11) P19(-6,11) P20(-5,11) P21(-4,11) P22(-3,11) P23(-2,11) P24(-1,11) P25(0,11) P26(1,11) P27(2,11) P28(3,11) P29(4,11) P30(5,11) P31(6,11) P32(7,11) P33(8,11) P34(9,11) P35(10,11) P36(11,11) P37(12,11) P38(13,11) P39(14,11) P40(15,11) P41(16,11) P42(17,11) P43(18,11) P44(19,11) P45(20,11) P46(21,11) P47(22,11) P48(23,11) P49(24,11) R1(-24,10) R2(-23,10) R3(-22,10) R4(-21,10) R5(-20,10) R6(-19,10) R7(-18,10) R8(-17,10) R9(-16,10) R10(-15,10) R11(-14,10) R12(-13,10) R13(-12,10) R14(-11,10) R15(-10,10) R16(-9,10) R17(-8,10) R18(-7,10) R19(-6,10) R20(-5,10) R21(-4,10) R22(-3,10) R23(-2,10) R24(-1,10) R25(0,10) R26(1,10) R27(2,10) R28(3,10) R29(4,10) R30(5,10) R31(6,10) R32(7,10) R33(8,10) R34(9,10) R35(10,10) R36(11,10) R37(12,10) R38(13,10) R39(14,10) R40(15,10) R41(16,10) R42(17,10) R43(18,10) R44(19,10) R45(20,10) R46(21,10) R47(22,10) R48(23,10) R49(24,10) T1(-24,9) T2(-23,9) T3(-22,9) T4(-21,9) T5(-20,9) T6(-19,9) T7(-18,9) T8(-17,9) T9(-16,9) T10(-15,9) T11(-14,9) T12(-13,9) T13(-12,9) T14(-11,9) T15(-10,9) T16(-9,9) T17(-8,9) T18(-7,9) T19(-6,9) T20(-5,9) T21(-4,9) T22(-3,9) T23(-2,9) T24(-1,9) T25(0,9) T26(1,9) T27(2,9) T28(3,9) T29(4,9) T30(5,9) T31(6,9) T32(7,9) T33(8,9) T34(9,9) T35(10,9) T36(11,9) T37(12,9) T38(13,9) T39(14,9) T40(15,9) T41(16,9) T42(17,9) T43(18,9) T44(19,9) T45(20,9) T46(21,9) T47(22,9) T48(23,9) T49(24,9) U1(-24,8) U2(-23,8) U3(-22,8) U4(-21,8) U5(-20,8) U6(-19,8) U7(-18,8) U8(-17,8) U9(-16,8) U10(-15,8) U11(-14,8) U12(-13,8) U13(-12,8) U14(-11,8) U15(-10,8) U16(-9,8) U17(-8,8) U18(-7,8) U19(-6,8) U20(-5,8) U21(-4,8) U22(-3,8) U23(-2,8) U24(-1,8) U25(0,8) U26(1,8) U27(2,8) U28(3,8) U29(4,8) U30(5,8) U31(6,8) U32(7,8) U33(8,8) U34(9,8) U35(10,8) U36(11,8) U37(12,8) U38(13,8) U39(14,8) U40(15,8) U41(16,8) U42(17,8) U43(18,8) U44(19,8) U45(20,8) U46(21,8) U47(22,8) U48(23,8) U49(24,8) V1(-24,7) V2(-23,7) V3(-22,7) V4(-21,7) V5(-20,7) V6(-19,7) V7(-18,7) V8(-17,7) V9(-16,7) V10(-15,7) V11(-14,7) V12(-13,7) V13(-12,7) V14(-11,7) V15(-10,7) V16(-9,7) V17(-8,7) V18(-7,7) V19(-6,7) V20(-5,7) V21(-4,7) V22(-3,7) V23(-2,7) V24(-1,7) V25(0,7) V26(1,7) V27(2,7) V28(3,7) V29(4,7) V30(5,7) V31(6,7) V32(7,7) V33(8,7) V34(9,7) V35(10,7) V36(11,7) V37(12,7) V38(13,7) V39(14,7) V40(15,7) V41(16,7) V42(17,7) V43(18,7) V44(19,7) V45(20,7) V46(21,7) V47(22,7) V48(23,7) V49(24,7) W1(-24,6) W2(-23,6) W3(-22,6) W4(-21,6) W5(-20,6) W6(-19,6) W7(-18,6) W8(-17,6) W9(-16,6) W10(-15,6) W11(-14,6) W12(-13,6) W13(-12,6) W14(-11,6) W15(-10,6) W16(-9,6) W17(-8,6) W18(-7,6) W19(-6,6) W20(-5,6) W21(-4,6) W22(-3,6) W23(-2,6) W24(-1,6) W25(0,6) W26(1,6) W27(2,6) W28(3,6) W29(4,6) W30(5,6) W31(6,6) W32(7,6) W33(8,6) W34(9,6) W35(10,6) W36(11,6) W37(12,6) W38(13,6) W39(14,6) W40(15,6) W41(16,6) W42(17,6) W43(18,6) W44(19,6) W45(20,6) W46(21,6) W47(22,6) W48(23,6) W49(24,6) Y1(-24,5) Y2(-23,5) Y3(-22,5) Y4(-21,5) Y5(-20,5) Y6(-19,5) Y7(-18,5) Y8(-17,5) Y9(-16,5) Y10(-15,5) Y11(-14,5) Y12(-13,5) Y13(-12,5) Y14(-11,5) Y15(-10,5) Y16(-9,5) Y17(-8,5) Y18(-7,5) Y19(-6,5) Y20(-5,5) Y21(-4,5) Y22(-3,5) Y23(-2,5) Y24(-1,5) Y25(0,5) Y26(1,5) Y27(2,5) Y28(3,5) Y29(4,5) Y30(5,5) Y31(6,5) Y32(7,5) Y33(8,5) Y34(9,5) Y35(10,5) Y36(11,5) Y37(12,5) Y38(13,5) Y39(14,5) Y40(15,5) Y41(16,5) Y42(17,5) Y43(18,5) Y44(19,5) Y45(20,5) Y46(21,5) Y47(22,5) Y48(23,5) Y49(24,5)
Top Overlay:
  circle w0.25: c-25.65,24 r0.125
  region: -24,25 -25,24 -25,25
  lines w0.2: -25,24 -24,25 ; -25,-25 25,-25 25,25 -25,25 -25,-25
Mechanical 13:
  lines w0.1: -25,-25 25,-25 25,25 -25,25 -25,-25
Mechanical 15:
  lines w0.1: -0.5,0 0.5,0 ; 0,-0.5 0,0.5 ; -26,-26 26,-26 26,26 -26,26 -26,-26
3D body: height 0, standoff 0, extent -25,-25 25,25